# Altium schematic symbol library Test Point.SchLib: 1 symbol
Pins are listed as number, name and electrical type; pins without a type are passive.

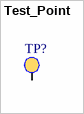
[diagram p0: symbol Test_Point]

## Test_Point
designator TP?
Test Point
pins: 0